# EAGLE library part SR1712F (library 0_skookumsynth_switch)
SWITCH, ROTARY, SP8T, D-SHAFT
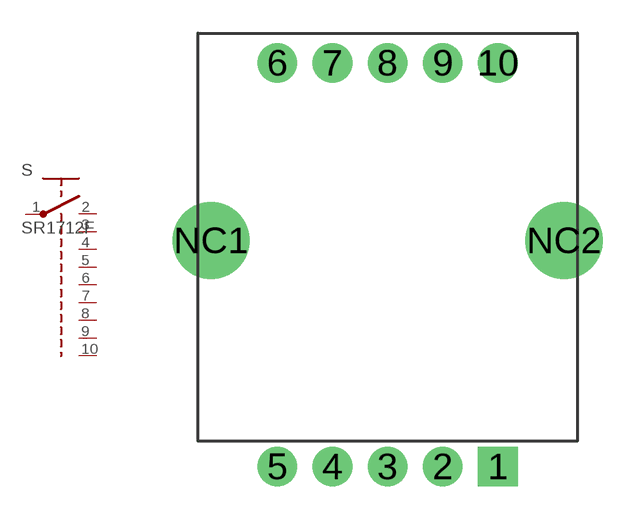
[diagram p1: symbol with the pads of SR1712F; footprint SR1712F]

Designator prefix S

## SR1712F (MFG: ALPHA [TAIWAN]; MFG_PART_NO: SR1712F-0108-20F0A-N9-N; MOUSER_PART_NO: 105-SR1712F-18NS)  [SR1712F]
1  1  pas
2  2  pas
3  3  pas
4  4  pas
5  5  pas
6  6  pas
7  7  pas
8  8  pas
9  9  pas
10  10  pas

## Footprint SR1712F (pad centres in mm)
drill 0.9 pad 1.8 square: 1 5,-9.15
drill 0.9 pad 1.8: 2 2.5,-9.15; 3 0,-9.15; 4 -2.5,-9.15; 5 -5,-9.15; 6 -5,9.15; 7 -2.5,9.15; 8 0,9.15; 9 2.5,9.15; 10 5,9.15
drill 2 pad 3.5: NC1 -8,1.1; NC2 8,1.1